# Altium footprint library HEXCAL_PCB_LIB.PcbLib: 209 footprints (part 2 of 14)
Each footprint in its own frame and in the unit in brackets; x right, y up, seen from the top. Pads: shape width x height; smd on the part's side, far side on the other; paste and mask are expansions set on the pad; w line width, h text height; cw(c..) or ccw(c..) is an arc to the next point about the centre after c.
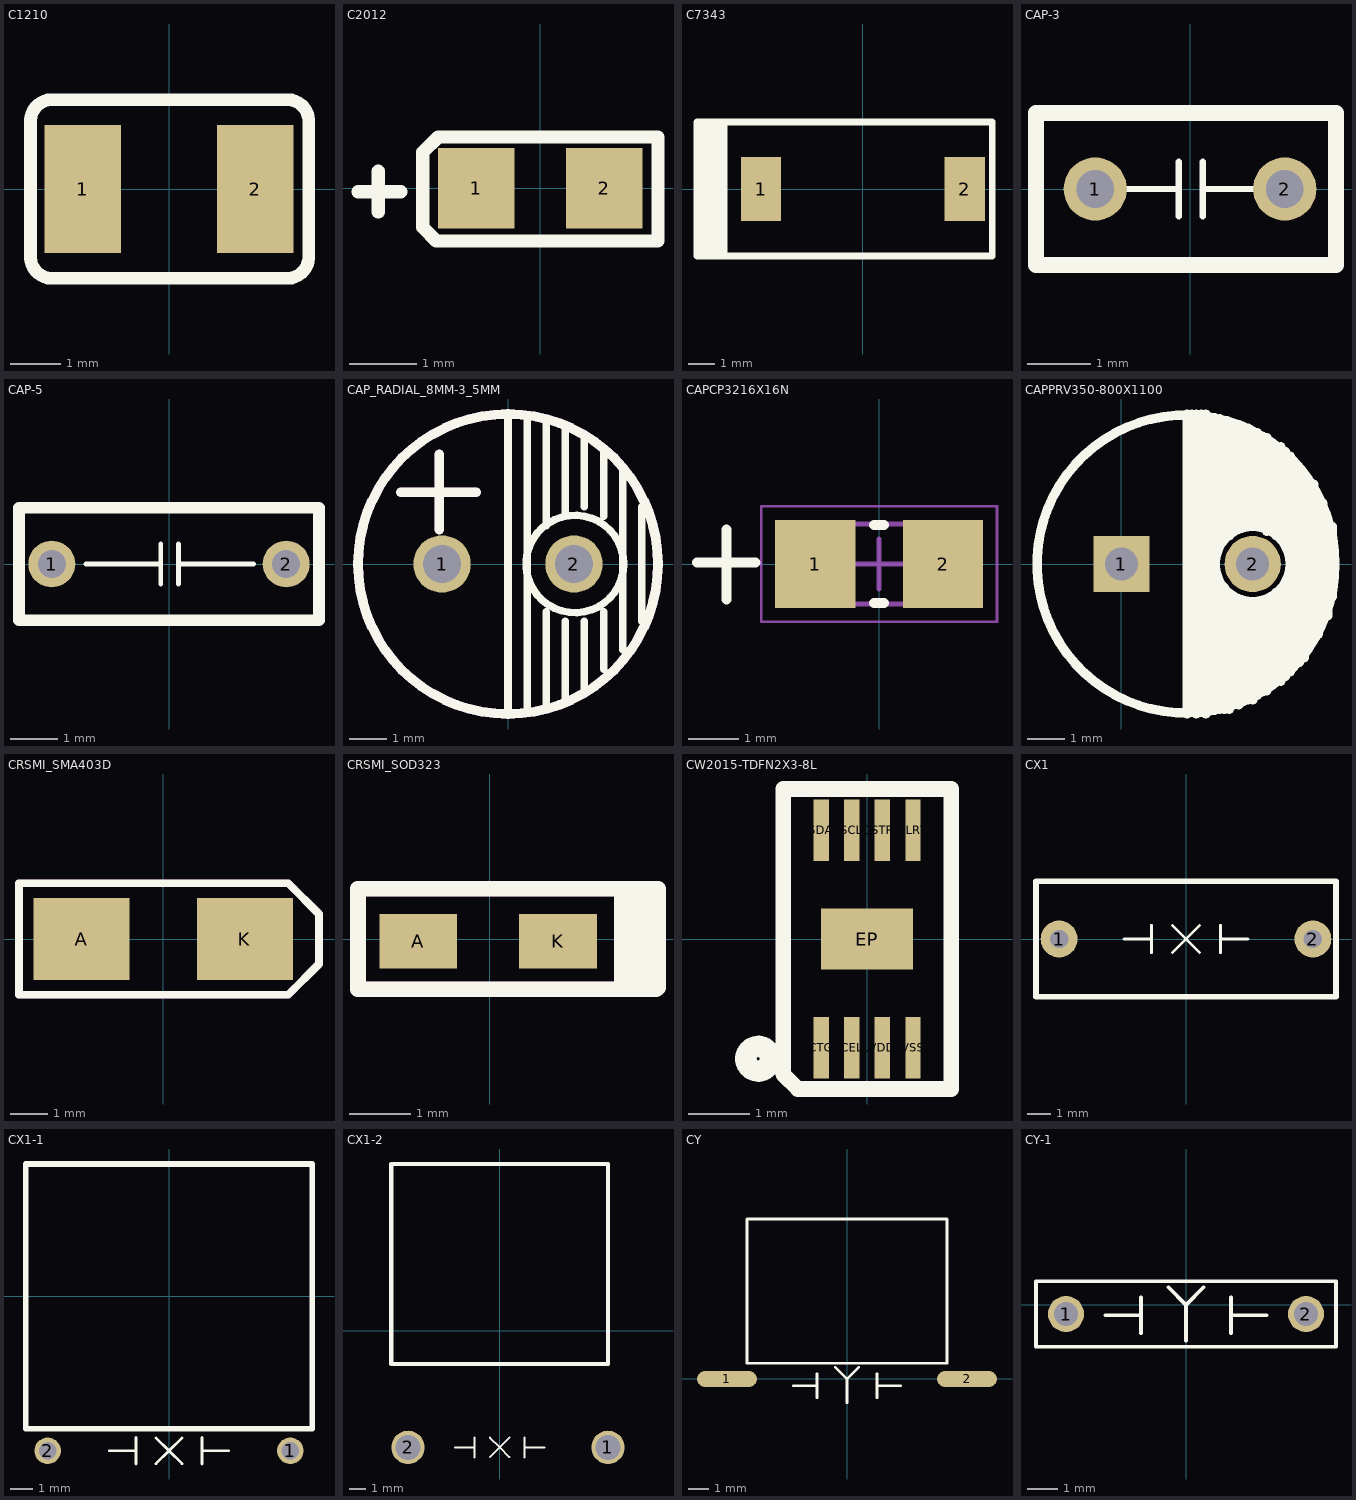
[diagram p1: the footprints below, top view; thin cyan lines are the x and y axes]

## C1210 [mil]
pads (2):
  rect 60x100 smd: 1(-67.5,0) 2(67.5,0)
Top Overlay:
  lines w10: -108.5,-53.98 ccw(c-91.5,-53) -92.51,-70 18.5,-70 93.5,-70 ccw(c92.52,-53) 109.52,-54.01 109.5,53.98 ccw(c92.5,53) 93.51,70 18.5,70 -92.5,70 ccw(c-91.52,53) -108.52,54.01 -108.52,-53.96

## C2012 [mm]
pads (2):
  rect 1.14x1.2 smd: 1(-0.955,0) 2(0.955,0)
Top Overlay:
  lines w0.2: -2.718,-0.051 -2.083,-0.051 ; -2.413,-0.356 -2.413,0.254 ; -1.753,-0.533 -1.753,-0.584 ; -1.321,0.762 -1.524,0.762 ; -1.753,-0.584 -1.549,-0.787 ; -1.753,-0.584 -1.549,-0.787 ; -1.753,-0.584 -1.753,0.533 ; -1.753,0.533 -1.524,0.762 ; -1.753,0.533 -1.524,0.762 ; -1.549,-0.787 1.753,-0.787 1.753,0.762 -1.524,0.762

## C7343 [mm]
pads (2):
  rect 1.5x2.4 smd: 1(-3.8,0) 2(3.8,0)
Top Overlay:
  lines w0.254: -5.994,-2.5 -5.994,2.5 ; -5.766,-2.5 -5.766,2.5 ; -5.537,-2.5 -5.537,2.5 ; -5.359,-2.5 -5.359,2.5 ; -5.182,-2.5 -5.182,2.5 ; -6.187,-2.5 -3.65,-2.5 3.65,-2.5 4.826,-2.5 4.826,2.5 3.65,2.5 -3.65,2.5 -6.187,2.5 -6.187,-2.5

## CAP-3 [mm]
pads (2):
  round 1 hole 0.6: 1(-1.5,0) 2(1.5,0)
Top Overlay:
  lines w0.1: -1.778,0 -0.178,0 ; -0.178,-0.432 -0.178,0.432 ; 0.203,-0.432 0.203,0.432 ; 0.203,0 1.803,0
  lines w0.254: -2.438,-1.2 -2.438,1.2 2.311,1.2 2.311,-1.2 -2.438,-1.2

## CAP-5 [mm]
pads (2):
  round 1 hole 0.6: 1(-2.5,0) 2(2.5,0)
Top Overlay:
  lines w0.1: -1.778,0 -0.178,0 ; -0.178,-0.432 -0.178,0.432 ; 0.203,-0.432 0.203,0.432 ; 0.203,0 1.803,0
  lines w0.254: -3.2,-1.2 -3.2,1.2 3.2,1.2 3.2,-1.2 -3.2,-1.2

## CAP_RADIAL_8MM-3_5MM [mil]
pads (2):
  round 60 hole 40: 1(-69,0) 2(69,0)
Top Overlay:
  circle w7.87: c70,0 r50.99
  circle w10: c0,0 r157
  lines w7.87: 0,-155.51 0,155.51 ; 20,-150 20,150 ; 40,-150 40,-50 ; 40,40 40,150 ; 60,-140 60,-60 ; 60,50 60,140 ; 80,-130 80,-60 ; 80,60 80,130 ; 100,-110 100,-50 ; 100,50 100,120 ; 120,-90 120,100 ; 140,-60 140,60
  lines w10: -112,75 -33,75 ; -72,36 -72,115
Mechanical 7:
  lines w10: -112,75 -33,75 ; -72,36 -72,115 ; -157,0 ccw(c0,0) 0,-157 ccw(c0,0) 157,0 ccw(c0,0) 0,157 ccw(c0,0) -157,0

## CAPCP3216X16N [mm] "Chip Capacitor, 2-Leads, Body 3.25x1.60mm, IPC Medium Density"
height 1.6
pads (2):
  rect 1.6x1.75 smd: 1(-1.275,0) 2(1.275,0)
Top Overlay:
  lines w0.2: -3.632,0.025 -2.464,0.025 ; -3.048,-0.711 -3.048,0.686 ; -0.1,-0.775 0.1,-0.775 ; -0.1,0.775 0.1,0.775
Mechanical 13:
  lines w0.1: -1.6,-0.8 1.6,-0.8 1.6,0.8 -1.6,0.8 -1.6,-0.8
Mechanical 15:
  lines w0.05: -2.35,-1.15 2.35,-1.15 2.35,1.15 -2.35,1.15 -2.35,-1.15
  lines w0.1: -0.5,0 0.5,0 ; 0,-0.5 0,0.5
3D body: height 1.6, standoff 0, extent 0.8,-0.8 1.6,0.8
3D body: height 1.6, standoff 0, extent -1.6,-0.8 -0.8,0.8
3D body: height 1.6, standoff 0, extent -0.8,-0.8 0.8,0.8

## CAPPRV350-800X1100 [mil]
pads (2):
  rect 60x60 / inner round 60 / far side rect 60x60 hole 35: 1(0,0)
  round 60 hole 35: 2(140,0)
Top Overlay:
  circle w10: c140,0 r40
  circle w10: c68.9,0 r158.9
  lines w10: 70,-160 70,160 ; 75,-155 75,160 ; 80,-160 80,160 ; 85,-155 85,-85 ; 85,-150 85,160 ; 90,-160 90,160 ; 95,-155 95,155 ; 100,-155 100,155 ; 105,-155 105,-30 ; 105,20 105,155 ; 110,-155 110,-25 ; 110,30 110,150 ; 115,-155 115,-35 ; 115,30 115,150 ; 120,-150 120,-40 ; 120,40 120,150 ; 125,-150 125,-40 125,-145 ; 125,40 125,145 ; 130,-145 130,-45 ; 130,45 130,145 ; 135,-145 135,-40 ; 135,45 135,145 ; 140,-145 140,-125 ; 140,-135 140,-45 ; 140,47.24 140,140 ; 145,-140 145,-45 ; 145,45 145,140 ; 150,-135 150,-40 ; 150,45 150,135 ; 155,-135 155,-40 ; 155,35 155,135 ; 160,-130 160,-40 ; 160,35 160,130 ; 165,-125 165,-30 ; 165,30 165,125 ; 170,-125 170,-30 ; 170,30 170,125 ; 175,-120 175,-20 ; 175,25 175,120 ; 180,-115 180,115 ; 185,-105 185,105 ; 190,-105 190,-70 ; 190,-95 190,100 ; 195,-100 195,95 ; 200,-90 200,90 ; 205,-80 205,85 ; 210,-75 210,70 ; 215,-60 215,65 ; 220,-55 220,45 ; 225,-35 225,40

## CRSMI_SMA403D [mil]
pads (2):
  rect 100x85 smd: A(-85,0) K(85,0)
Top Overlay:
  lines w8: -150,-58 -5,-58 130,-58 162,-26 162,26 130,58 -150,58 -150,-58
Mechanical 6:
  lines w8: 136.5,-51.5 130,-58 -5,-58 -150,-58 -150,58 130,58 136.5,51.5 ; 144,-44 162,-26 162,26 144,44
Mechanical 16:
  lines w8: -90,-58 90,-58 ; -90,58 90,58

## CRSMI_SOD323 [mil]
pads (2):
  rect 50x35 smd: A(-46,-1.5) K(44,-1.5)
Top Overlay:
  lines w10: 91.75,-32.5 91.75,32.5 ; 85,-32.5 98.5,-32.5 98.5,32.5 ; 85,-32.5 0,-32.5 -85,-32.5 -85,32.5 85,32.5 ; 85,-32.5 85,32.5 ; 85,-32.5 107.5,-32.5 108.5,-31.5 108.5,32.5 98.5,32.5 ; 85,32.5 98.5,32.5
Mechanical 6:
  lines w10: -85,-32.5 -85,32.5 85,32.5 85,-32.5 0,-32.5 -85,-32.5

## CW2015-TDFN2X3-8L [mm]
pads (9):
  rect 0.25x1 smd: ALRT(0.75,1.775) CTG(-0.75,-1.775) QSTRT(0.25,1.775) SCL(-0.25,1.775) SDA(-0.75,1.775) VCELL(-0.25,-1.775) VDD(0.25,-1.775) VSS(0.75,-1.775)
  rect 1.5x1 smd: EP(0,0)
Top Overlay:
  circle w0.254: c-1.778,-1.956 r0.153
  circle w0.254: c-1.778,-1.956 r0.25
  lines w0.254: -1.372,-2.21 -1.131,-2.45 1.372,-2.45 1.372,2.45 -1.372,2.45 -1.372,-2.21

## CX1 [mm]
pads (2):
  round 1.6 hole 0.8: 1(-5.5,0) 2(5.5,0)
Top Overlay:
  lines w0.127: -2.691,0 -1.499,0 ; -1.499,-0.596 -1.499,0.596 ; -0.584,-0.584 0,0 ; -0.585,0.585 0,0 ; 0.585,-0.585 0,0 ; 0.584,0.584 0,0 ; 1.501,-0.596 1.501,0.596 ; 1.501,0 2.694,0
  lines w0.254: -6.5,-2.5 6.5,-2.5 6.5,2.5 -6.5,2.5 -6.5,-2.5

## CX1-1 [mm]
pads (2):
  round 1.2 hole 0.8: 1(5.5,-7) 2(-5.5,-7)
Top Overlay:
  lines w0.127: -2.691,-7 -1.499,-7 ; -1.499,-7.596 -1.499,-6.404 ; -0.584,-7.584 0,-7 ; -0.585,-6.415 0,-7 ; 0.585,-7.585 0,-7 ; 0.584,-6.416 0,-7 ; 1.501,-7.596 1.501,-6.404 ; 1.501,-7 2.694,-7
  lines w0.254: -6.5,-6 6.5,-6 6.5,6 -6.5,6 -6.5,-6

## CX1-2 [mm]
pads (2):
  round 2 hole 1.5: 1(6.5,-7) 2(-5.5,-7)
Top Overlay:
  lines w0.127: -2.691,-7 -1.499,-7 ; -1.499,-7.596 -1.499,-6.404 ; -0.584,-7.584 0,-7 ; -0.585,-6.415 0,-7 ; 0.585,-7.585 0,-7 ; 0.584,-6.416 0,-7 ; 1.501,-7.596 1.501,-6.404 ; 1.501,-7 2.694,-7
  lines w0.254: -6.5,-2 -6.5,10 6.5,10 6.5,-2 -6.5,-2

## CY [mm]
pads (2):
  oval 3x0.8 smd: 1(-6,0) 2(6,0)
Top Overlay:
  lines w0.127: -2.693,-0.343 -1.5,-0.343 ; -1.5,-0.94 -1.5,0.253 ; -0.585,0.585 0,0 ; 0,-1.193 0,0 ; 0.584,0.584 0,0 ; 1.5,-0.94 1.5,0.253 ; 1.5,-0.343 2.693,-0.343 ; -5,0.787 -5,8 5,8 5,0.787 -5,0.787

## CY-1 [mm]
pads (2):
  round 1.2 hole 0.8: 1(-4,-0.305) 2(4,-0.305)
Top Overlay:
  lines w0.127: -2.693,-0.343 -1.5,-0.343 ; -1.5,-0.94 -1.5,0.253 ; -0.585,0.585 0,0 ; 0,-1.193 0,0 ; 0.584,0.584 0,0 ; 1.5,-0.94 1.5,0.253 ; 1.5,-0.343 2.693,-0.343 ; -5,-1.397 5,-1.397 5,0.787 -5,0.787 -5,-1.397